# Altium schematic symbol library Components.SchLib: 31 symbols
Pins are listed as number, name and electrical type; pins without a type are passive.

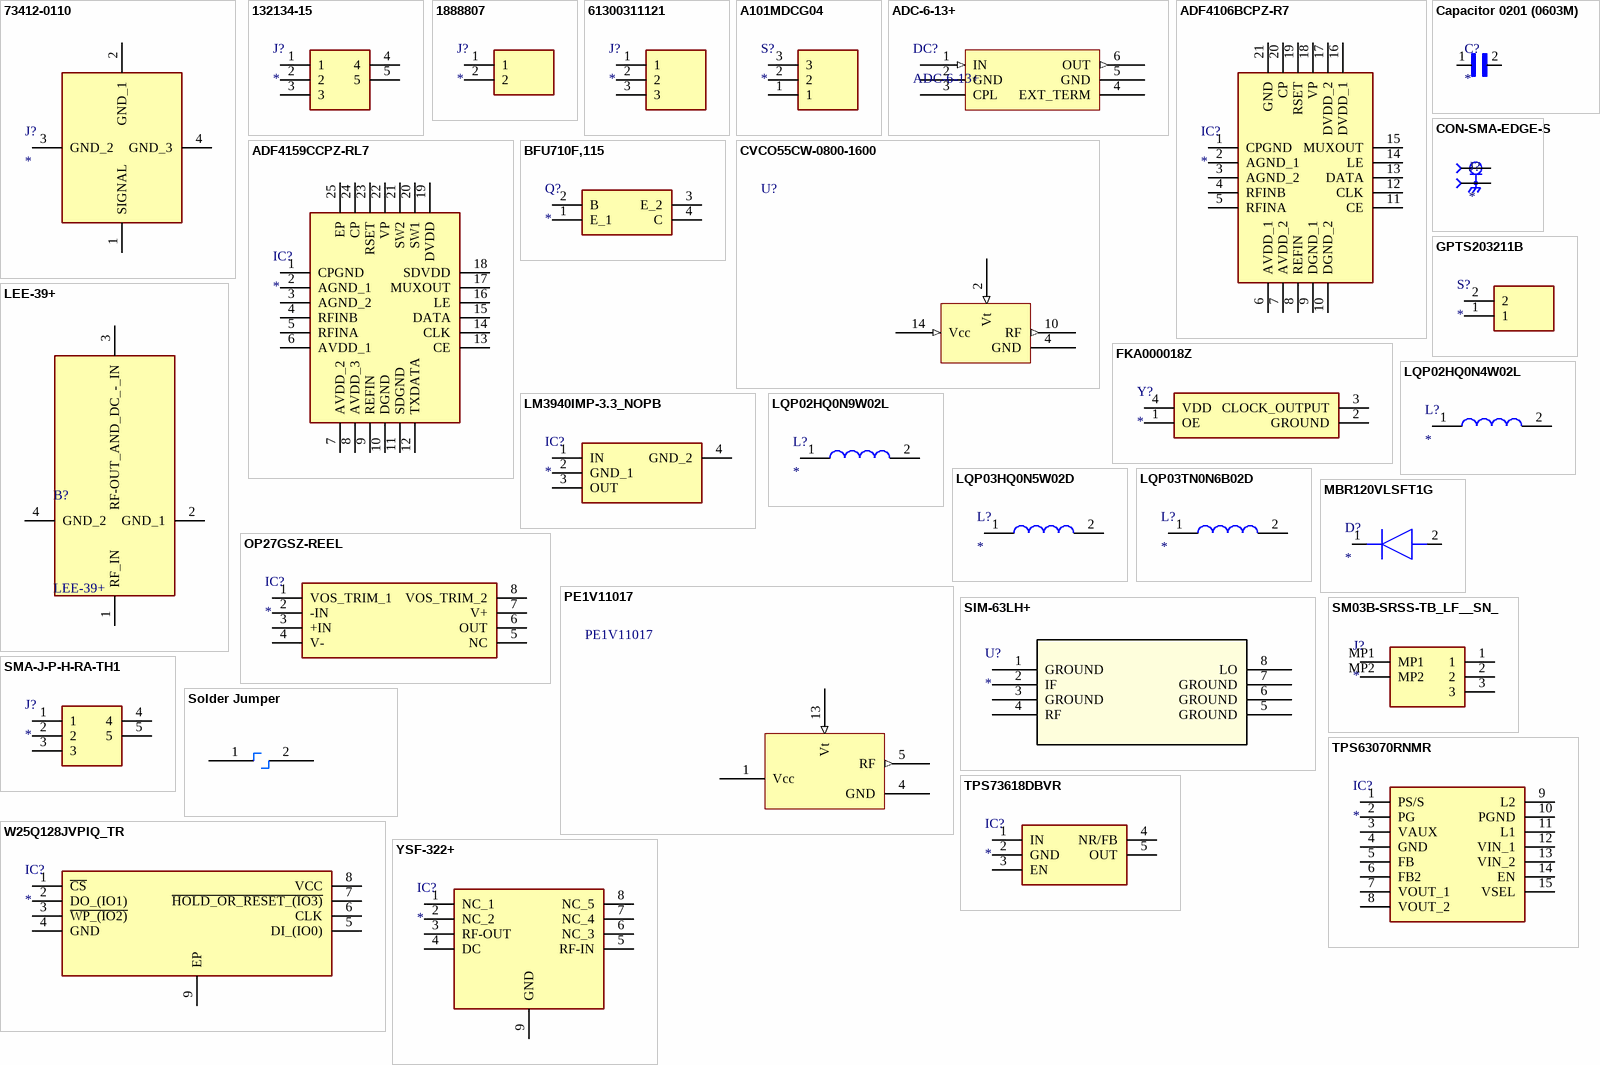
[diagram p0: symbols 73412-0110 to YSF-322+]

## 73412-0110
designator J?
Connector; Manufacturer_Name: Molex; Manufacturer_Part_Number: 73412-0110; Datasheet Link: http://www.molex.com/pdm_docs/sd/734120110_sd.pdf; Mouser Part Number: 538-73412-0110; Mouser Price/Stock: https://www.mouser.co.uk/ProductDetail/Molex/73412-0110?qs=NlNVDDZd7xQHV8e0ilpSdQ%3D%3D; Arrow Part Number: 73412-0110; Arrow Price/Stock: https://www.arrow.com/en/products/73412-0110/molex?region=nac
footprint 73412-0110
pins: 1 SIGNAL, 2 GND_1, 3 GND_2, 4 GND_3

## 132134-15
designator J?
Connector; Manufacturer_Name: Amphenol; Manufacturer_Part_Number: 132134-15; Datasheet Link: https://www.amphenolrf.com/132134-15.html; Height: 9.53mm; Mouser Part Number: 523-132134-15; Mouser Price/Stock: https://www.mouser.co.uk/ProductDetail/Amphenol-RF/132134-15?qs=Z6N%252BYuApFLU9c2BhOaAHeg%3D%3D; Arrow Part Number: 132134-15; Arrow Price/Stock: https://www.arrow.com/en/products/132134-15/amphenol-rf?region=nac
footprint 13213415
pins: 1, 2, 3, 4, 5

## 1888807
designator J?
Connector; Manufacturer_Name: Phoenix Contact; Manufacturer_Part_Number: 1888807; Datasheet Link: http://www.phoenixcontact.net/product/1888807; Height: 8.65mm; Mouser Part Number: 651-1888807; Mouser Price/Stock: https://www.mouser.co.uk/ProductDetail/Phoenix-Contact/1888807?qs=iCzJi%2FIZBF76CR%2Fidnhfhg%3D%3D; Arrow Part Number: 1888807; Arrow Price/Stock: null?region=nac
footprint 1888807
pins: 1, 2

## 61300311121
designator J?
Connector; Manufacturer_Name: Wurth Elektronik; Manufacturer_Part_Number: 61300311121; Datasheet Link: http://katalog.we-online.de/em/datasheet/6130xx11121.pdf; Height: 8.69mm; Mouser Part Number: 710-61300311121; Mouser Price/Stock: https://www.mouser.co.uk/ProductDetail/Wurth-Elektronik/61300311121?qs=PhR8RmCirEYxRWFJzNKsUw%3D%3D
footprint HDRV3W64P0X254_1X3_762X254X869P
pins: 1, 2, 3

## A101MDCG04
designator S?
Switch; Manufacturer_Name: TE Connectivity; Manufacturer_Part_Number: A101MDCG04; Datasheet Link: https://www.te.com/commerce/DocumentDelivery/DDEController?Action=srchrtrv&DocNm=1825136&DocType=Customer%20Drawing&DocLang=English&DocFormat=pdf&PartCntxt=2-1825136-1; Height: 22.86mm; Mouser Part Number: 506-A101MDCG04; Mouser Price/Stock: https://www.mouser.co.uk/ProductDetail/TE-Connectivity-AMP/A101MDCG04?qs=QRglGzzppPCkq4TuMtImww%3D%3D
footprint A101MDCG04
pins: 1, 2, 3

## ADC-6-13+
designator DC?
Directional Coupler
footprint CD542_MNC
pins: 1 IN (in), 2 GND, 3 CPL (power), 4 EXT_TERM, 5 GND, 6 OUT (out)

## ADF4106BCPZ-R7
designator IC?
Integrated Circuit; Manufacturer_Name: Analog Devices; Manufacturer_Part_Number: ADF4106BCPZ-R7; Datasheet Link: https://www.analog.com/media/en/technical-documentation/data-sheets/adf4106.pdf; Height: 0.8mm; Mouser Part Number: 584-ADF4106BCPZ-R7; Mouser Price/Stock: https://www.mouser.co.uk/ProductDetail/Analog-Devices/ADF4106BCPZ-R7?qs=BpaRKvA4VqHcTFu6FdzGOw%3D%3D; Arrow Part Number: ADF4106BCPZ-R7; Arrow Price/Stock: https://www.arrow.com/en/products/adf4106bcpz-r7/analog-devices?region=nac
footprint QFN50P400X400X80-21N-D
pins: 1 CPGND, 2 AGND_1, 3 AGND_2, 4 RFINB, 5 RFINA, 6 AVDD_1, 7 AVDD_2, 8 REFIN, 9 DGND_1, 10 DGND_2, 11 CE, 12 CLK, 13 DATA, 14 LE, 15 MUXOUT, 16 DVDD_1, 17 DVDD_2, 18 VP, 19 RSET, 20 CP, 21 GND

## ADF4159CCPZ-RL7
designator IC?
Integrated Circuit; Manufacturer_Name: Analog Devices; Manufacturer_Part_Number: ADF4159CCPZ-RL7; Datasheet Link: https://www.arrow.com/en/products/adf4159ccpz-rl7/analog-devices; Height: 0.8mm; Mouser Part Number: 584-ADF4159CCPZ-RL7; Mouser Price/Stock: https://www.mouser.co.uk/ProductDetail/Analog-Devices/ADF4159CCPZ-RL7?qs=pqQDoYZ2quZQFZJV2MwWbw%3D%3D; Arrow Part Number: ADF4159CCPZ-RL7; Arrow Price/Stock: https://www.arrow.com/en/products/adf4159ccpz-rl7/analog-devices?region=nac
footprint QFN50P400X400X80-25N-D
pins: 1 CPGND, 2 AGND_1, 3 AGND_2, 4 RFINB, 5 RFINA, 6 AVDD_1, 7 AVDD_2, 8 AVDD_3, 9 REFIN, 10 DGND, 11 SDGND, 12 TXDATA, 13 CE, 14 CLK, 15 DATA, 16 LE, 17 MUXOUT, 18 SDVDD, 19 DVDD, 20 SW1, 21 SW2, 22 VP, 23 RSET, 24 CP, 25 EP

## BFU710F,115
designator Q?
Transistor BJT NPN; Manufacturer_Name: NXP; Manufacturer_Part_Number: BFU710F,115; Datasheet Link: http://www.nxp.com/docs/en/data-sheet/BFU710F.pdf; Height: 0.75mm; Mouser Part Number: 771-BFU710F115; Mouser Price/Stock: https://www.mouser.com/Search/Refine.aspx?Keyword=771-BFU710F115
footprint BFU710F115
pins: 1 E_1, 2 B, 3 E_2, 4 C

## Capacitor 0201 (0603M)
designator C?
Ceramic Capacitor X5R 0201 (0603 Metric); MF: AVX; MP: 0201ZD104KAT2A; Price: None; Package: 0603 AVX; Purchase-URL: https://pricing.snapeda.com/search/part/0201ZD104KAT2A/?ref=eda; Availability: In Stock; SnapEDA_Link: https://www.snapeda.com/parts/0201ZD104KAT2A/AVX/view-part/?ref=snap; Value: *; Check_prices: https://www.snapeda.com/parts/0201ZD104KAT2A/AVX/view-part/?ref=eda
footprint CAPC0603X33N
pins: 1, 2

## CON-SMA-EDGE-S
designator J?
SMA Connector Jack, Female Socket - Board Edge, End Launch Solder; MF: RF Solutions; MP: CON-SMA-EDGE-S; Value: *; SnapEDA_Link: https://www.snapeda.com/parts/CON-SMA-EDGE-S/RF+Solutions/view-part/?ref=snap; Purchase-URL: https://pricing.snapeda.com/search/part/CON-SMA-EDGE-S/?ref=eda; Check_prices: https://www.snapeda.com/parts/CON-SMA-EDGE-S/RF+Solutions/view-part/?ref=eda; Digi-Key_Part_Number: CON-SMA-EDGE-S-ND; Package: None
footprint RFSOLUTIONS_CON-SMA-EDGE-S
pins: 1, G1 2, G2 2, G3 2, G4 2

## CVCO55CW-0800-1600
designator U?  (value not drawn)
Crystek Microwave 0.8-1.6GHz VCO
footprint CVCO55CW-0800-1600
pins: 2 Vt (in), 4 GND, 10 RF (out), 14 Vcc (in)

## FKA000018Z
designator Y?
Crystal or Oscillator; Manufacturer_Name: Diodes Incorporated; Manufacturer_Part_Number: FKA000018Z; Datasheet Link: https://media.digikey.com/pdf/Data%20Sheets/Pericom%20PDFs/FKA000018Z_Ver.A.pdf; Height: 1.15mm; Mouser Part Number: 729-FKA000018Z; Mouser Price/Stock: https://www.mouser.co.uk/ProductDetail/Diodes-Incorporated/FKA000018Z?qs=Rp3RbKSfAt3xH1%2FibBOlSw%3D%3D; Arrow Part Number: FKA000018Z; Arrow Price/Stock: https://www.arrow.com/en/products/fka000018z/diodes-incorporated
footprint FKA000018Z
pins: 1 OE, 2 GROUND, 3 CLOCK_OUTPUT, 4 VDD

## GPTS203211B
designator S?
Switch; Manufacturer_Name: CW Industries; Manufacturer_Part_Number: GPTS203211B; Datasheet Link: http://switches-connectors-custom.cwind.com/Asset/GPTS203211BR2.pdf; Mouser Part Number: 629-GPTS203211B; Mouser Price/Stock: https://www.mouser.co.uk/ProductDetail/CW-Industries/GPTS203211B?qs=sajaCoHCXPR%252BmLwibobs6Q%3D%3D
footprint GPTS203211B
pins: 1, 2

## LEE-39+
designator B?
LOW NOISE MMIC AMPLIFIER, DC TO 8 GHZ; Manufacturer_Name: Mini-Circuits; Geometry.Height: 0.89mm; Mouser Part Number: 139-LEE-39; Mouser Price/Stock: https://www.mouser.co.uk/ProductDetail/Mini-Circuits/LEE-39%2b?qs=xZ%2FP%252Ba9zWqYZp5ZwZPFuXg%3D%3D; Manufacturer_Part_Number: LEE-39+; Datasheet Link: https://www.minicircuits.com/pdfs/LEE-39+.pdf
footprint LEE39
pins: 1 RF_IN, 2 GND_1, 3 RF-OUT_AND_DC_-_IN, 4 GND_2

## LM3940IMP-3.3_NOPB
designator IC?
Integrated Circuit; Manufacturer_Name: Texas Instruments; Manufacturer_Part_Number: LM3940IMP-3.3/NOPB; Datasheet Link: http://www.ti.com/lit/ds/symlink/lm3940.pdf; Height: 1.8mm; Mouser Part Number: 926-LM3940IMP3.3NOPB; Mouser Price/Stock: https://www.mouser.co.uk/ProductDetail/Texas-Instruments/LM3940IMP-3.3-NOPB?qs=QbsRYf82W3EIVCEt3IRFTQ%3D%3D; Arrow Part Number: LM3940IMP-3.3/NOPB; Arrow Price/Stock: https://www.arrow.com/en/products/lm3940imp-3.3nopb/texas-instruments?region=nac
footprint SOT230P700X180-4N
pins: 1 IN, 2 GND_1, 3 OUT, 4 GND_2

## LQP02HQ0N4W02L
designator L?
Inductor; Manufacturer_Name: Murata Electronics; Manufacturer_Part_Number: LQP02HQ0N4W02L; Datasheet Link: https://search.murata.co.jp/Ceramy/image/img/P02/JELF243C-0023.pdf; Height: 0.32mm; Mouser Part Number: 81-LQP02HQ0N4W02L; Mouser Price/Stock: https://www.mouser.co.uk/ProductDetail/Murata-Electronics/LQP02HQ0N4W02L?qs=70cth9uAySen4TtaTnoOUg%3D%3D
footprint LQP02HQ0N2B02E
pins: 1, 2

## LQP02HQ0N9W02L
designator L?
Inductor; Manufacturer_Name: Murata Electronics; Manufacturer_Part_Number: LQP02HQ0N9W02L; Datasheet Link: https://search.murata.co.jp/Ceramy/image/img/P02/JELF243C-0023.pdf; Height: 0.32mm; Mouser Part Number: 81-LQP02HQ0N9W02L; Mouser Price/Stock: https://www.mouser.co.uk/ProductDetail/Murata-Electronics/LQP02HQ0N9W02L?qs=70cth9uAySf%252Bytje7ApwGQ%3D%3D
footprint LQP02HQ0N2B02E
pins: 1, 2

## LQP03HQ0N5W02D
designator L?
Inductor; Manufacturer_Name: Murata Electronics; Manufacturer_Part_Number: LQP03HQ0N5W02D; Datasheet Link: https://search.murata.co.jp/Ceramy/image/img/P02/JELF243C-0021.pdf; Height: 0.42mm; Mouser Part Number: 81-LQP03HQ0N5W02D; Mouser Price/Stock: https://www.mouser.co.uk/ProductDetail/Murata-Electronics/LQP03HQ0N5W02D?qs=xZ%2FP%252Ba9zWqaDUf%2FupWIkIQ%3D%3D
footprint LQP03HQ0N5B02D
pins: 1, 2

## LQP03TN0N6B02D
designator L?
Inductor; Manufacturer_Name: Murata Electronics; Manufacturer_Part_Number: LQP03TN0N6B02D; Datasheet Link: https://search.murata.co.jp/Ceramy/image/img/P02/JELF243C-0015.pdf; Height: 0.33mm; Mouser Part Number: 81-LQP03TN0N6B02D; Mouser Price/Stock: https://www.mouser.com/Search/Refine.aspx?Keyword=81-LQP03TN0N6B02D
footprint LQP03TG3N1B02D
pins: 1, 2

## MBR120VLSFT1G
designator D?
Diode; Manufacturer_Name: onsemi; Manufacturer_Part_Number: MBR120VLSFT1G; Datasheet Link: https://www.onsemi.com/pub/Collateral/MBR120VLSFT1-D.PDF; Height: 0.98mm; Mouser Part Number: 863-MBR120VLSFT1G; Mouser Price/Stock: https://www.mouser.co.uk/ProductDetail/onsemi/MBR120VLSFT1G?qs=3JMERSakebpX%252BkItPpFCkg%3D%3D; Arrow Part Number: MBR120VLSFT1G; Arrow Price/Stock: https://www.arrow.com/en/products/mbr120vlsft1g/on-semiconductor?utm_currency=USD&region=nac
footprint SODFL3616X98N
pins: 1 K, 2 A

## OP27GSZ-REEL
designator IC?
Integrated Circuit; Manufacturer_Name: Analog Devices; Manufacturer_Part_Number: OP27GSZ-REEL; Datasheet Link: https://docs.rs-online.com/8f59/0900766b8149252f.pdf; Height: 1.75mm; Mouser Part Number: 584-OP27GSZ-R; Mouser Price/Stock: https://www.mouser.co.uk/ProductDetail/Analog-Devices/OP27GSZ-REEL?qs=WIvQP4zGanhkGpKjRH6%2FdQ%3D%3D; Arrow Part Number: OP27GSZ-REEL; Arrow Price/Stock: https://www.arrow.com/en/products/op27gsz-reel/analog-devices?utm_currency=USD&region=nac
footprint SOIC127P600X175-8N
pins: 1 VOS_TRIM_1, 2 -IN, 3 +IN, 4 V-, 5 NC, 6 OUT, 7 V+, 8 VOS_TRIM_2

## PE1V11017
designator PE1V11017  (value not drawn)
Pasternack 800Mhz - 1.2GHz VCO
footprint PE1V11017
pins: 1 Vcc (power), 4 GND, 5 RF (out), 13 Vt (in)

## SIM-63LH+
designator U?
No Description Available; Mfr_Name: Mini Circuits; Digi-Key_Part_Number_1: 3157-SIM-63LH+TR-ND; RefDes: RefDes; Type: Type
footprint HV1195_MNC
pins: 1 GROUND (power), 2 IF, 3 GROUND (power), 4 RF, 5 GROUND (power), 6 GROUND (power), 7 GROUND (power), 8 LO

## SM03B-SRSS-TB_LF__SN_
designator J?
Connector; Manufacturer_Name: JST (JAPAN SOLDERLESS TERMINALS); Manufacturer_Part_Number: SM03B-SRSS-TB(LF)(SN); Datasheet Link: http://www.jst-mfg.com/product/pdf/eng/eSR.pdf; Height: 2.9mm; Mouser Part Number: 306-SM03BSRSSTBLFSNP; Mouser Price/Stock: https://www.mouser.co.uk/ProductDetail/JST-Commercial/SM03B-SRSS-TBLFSN?qs=cdbOS8ANM9DY%2Fg%2FPQv5Kng%3D%3D; Arrow Part Number: SM03B-SRSS-TB(LF)(SN); Arrow Price/Stock: https://www.arrow.com/en/products/sm03b-srss-tb-lf-sn/jst-manufacturing?utm_currency=USD&region=europe
footprint SM03BSRSSTBLFSN
pins: 1, 2, 3, MP1, MP2

## SMA-J-P-H-RA-TH1
designator J?
Connector; Manufacturer_Name: SAMTEC; Manufacturer_Part_Number: SMA-J-P-H-RA-TH1; Datasheet Link: http://suddendocs.samtec.com/prints/sma-j-p-x-ra-th1-mkt.pdf; Height: 9.86mm; Mouser Part Number: 200-SMAJPHRATH1; Mouser Price/Stock: https://www.mouser.co.uk/ProductDetail/Samtec/SMA-J-P-H-RA-TH1?qs=IAPfasySNH9bBmPI%2F132gw%3D%3D; Arrow Part Number: SMA-J-P-H-RA-TH1; Arrow Price/Stock: https://www.arrow.com/en/products/sma-j-p-h-ra-th1/samtec?region=europe
footprint SMAJPHRATH1
pins: 1, 2, 3, 4, 5

## Solder Jumper
designator S?
Digikey: P8083SCT-ND; Datasheet: http://industrial.panasonic.com/www-data/pdf/ATK0000/ATK0000CE11.pdf
footprint 0201J (Solder Jumper)
pins: 1, 2

## TPS63070RNMR
designator IC?
Integrated Circuit; Manufacturer_Name: Texas Instruments; Manufacturer_Part_Number: TPS63070RNMR; Datasheet Link: http://www.ti.com/lit/gpn/tps63070; Mouser Part Number: 595-TPS63070RNMR; Mouser Price/Stock: https://www.mouser.co.uk/ProductDetail/Texas-Instruments/TPS63070RNMR?qs=LuYMPh7GGMS51GHntBDRnQ%3D%3D; Arrow Part Number: TPS63070RNMR; Arrow Price/Stock: https://www.arrow.com/en/products/tps63070rnmr/texas-instruments?utm_currency=USD&region=nac
footprint TPS630701RNMR
pins: 1 PS/S, 2 PG, 3 VAUX, 4 GND, 5 FB, 6 FB2, 7 VOUT_1, 8 VOUT_2, 9 L2, 10 PGND, 11 L1, 12 VIN_1, 13 VIN_2, 14 EN, 15 VSEL

## TPS73618DBVR
designator IC?
Integrated Circuit; Manufacturer_Name: Texas Instruments; Manufacturer_Part_Number: TPS73618DBVR; Datasheet Link: http://www.ti.com/lit/gpn/tps736; Height: 1.45mm; Mouser Part Number: 595-TPS73618DBVR; Mouser Price/Stock: https://www.mouser.co.uk/ProductDetail/Texas-Instruments/TPS73618DBVR?qs=6zVL%252ByCp0mqKuDWNhJAuvQ%3D%3D; Arrow Part Number: TPS73618DBVR; Arrow Price/Stock: https://www.arrow.com/en/products/tps73618dbvr/texas-instruments?region=nac
footprint SOT95P280X145-5N
pins: 1 IN, 2 GND, 3 EN, 4 NR/FB, 5 OUT

## W25Q128JVPIQ_TR
designator IC?
Integrated Circuit; Manufacturer_Name: Winbond; Manufacturer_Part_Number: W25Q128JVPIQ TR; Datasheet Link: https://www.winbond.com/resource-files/w25q128jv%20revf%2003272018%20plus.pdf; Height: 0.8mm; Mouser Part Number: 454-W25Q128JVPIQTR; Mouser Price/Stock: https://www.mouser.co.uk/ProductDetail/Winbond/W25Q128JVPIQ-TR?qs=qSfuJ%252Bfl%2Fd6H7vbXyrDu3w%3D%3D; Arrow Part Number: W25Q128JVPIQ TR; Arrow Price/Stock: https://www.arrow.com/en/products/w25q128jvpiqtr/winbond-electronics?utm_currency=USD&region=nac
footprint SON127P600X500X80-9N-D
pins: 1 ~{CS}, 2 DO_(IO1), 3 ~{WP_(IO2)}, 4 GND, 5 DI_(IO0), 6 CLK, 7 ~{HOLD_OR_RESET_(IO3)}, 8 VCC, 9 EP

## YSF-322+
designator IC?
Integrated Circuit; Manufacturer_Name: Mini-Circuits; Manufacturer_Part_Number: YSF-322+; Datasheet Link: https://www.minicircuits.com/pdfs/YSF-322+.pdf; Height: 1.002mm
footprint SON127P600X490X100-9N-D
pins: 1 NC_1, 2 NC_2, 3 RF-OUT, 4 DC, 5 RF-IN, 6 NC_3, 7 NC_4, 8 NC_5, 9 GND